# EAGLE library part LM2734YMK/NOPB (library LM2744)
Voltage regulator 5v
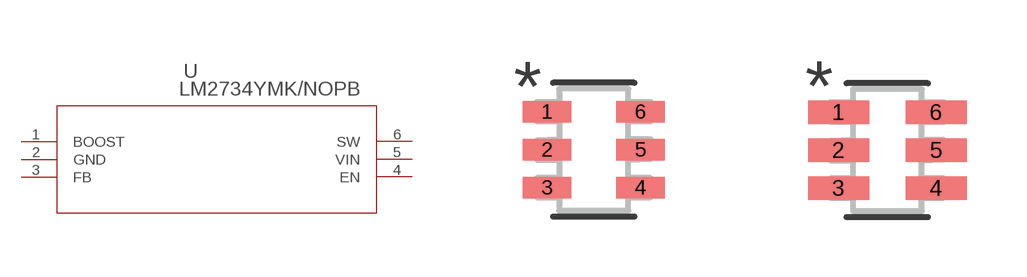
[diagram p0: symbol with the pads of MK06A; footprints MK06A, MK06A-M]

Designator prefix U

## LM2734YMK/NOPB (MANUFACTURER_PART_NUMBER: LM2734YMKNOPB; VENDOR: Texas Instruments)  [MK06A]
1  BOOST  pas
2  GND  pwr
3  FB  in
4  EN  in
5  VIN  pwr
6  SW  pwr

## LM2734YMK/NOPBMK06A-M (MANUFACTURER_PART_NUMBER: LM2734YMKNOPB; VENDOR: Texas Instruments)  [MK06A-M]
Pads as for MK06A

## LM2734YMK/NOPBMK06A-L (MANUFACTURER_PART_NUMBER: LM2734YMKNOPB; VENDOR: Texas Instruments)  [MK06A-L]
Pads as for MK06A

## Footprint MK06A (pad centres in mm)
smd 1.219 x 0.533: 1 -1.168,0.95; 2 -1.168,0; 3 -1.168,-0.95; 4 1.168,-0.95; 5 1.168,0; 6 1.168,0.95

## Footprint MK06A-M (pad centres in mm)
smd 1.524 x 0.584: 1 -1.219,0.95; 2 -1.219,0; 3 -1.219,-0.95; 4 1.219,-0.95; 5 1.219,0; 6 1.219,0.95

## Footprint MK06A-L (pad centres in mm)
smd 0.914 x 0.483: 1 -1.118,0.95; 2 -1.118,0; 3 -1.118,-0.95; 4 1.118,-0.95; 5 1.118,0; 6 1.118,0.95